# Altium footprint library PcbLib.PcbLib: 6 footprints
Each footprint in its own frame and in the unit in brackets; x right, y up, seen from the top. Pads: shape width x height; smd on the part's side, far side on the other; paste and mask are expansions set on the pad; w line width, h text height; cw(c..) or ccw(c..) is an arc to the next point about the centre after c.
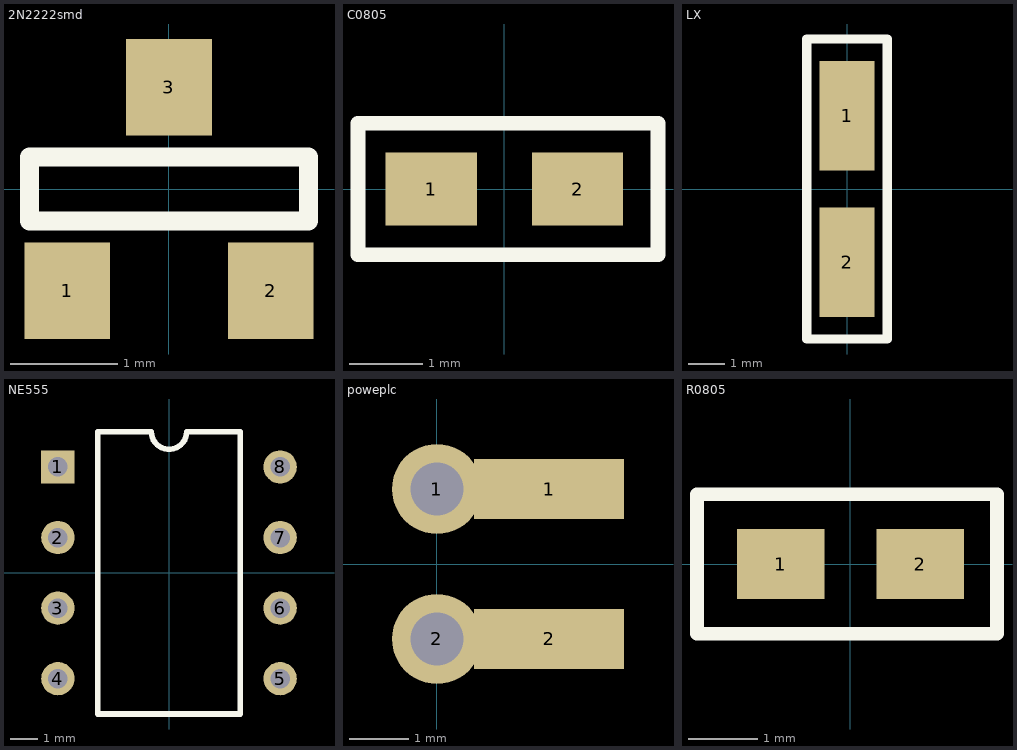
[diagram p0: the footprints below, top view; thin cyan lines are the x and y axes]

## 2N2222smd [mm]
pads (3):
  rect 0.8x0.9 smd: 1(-0.95,-0.95) 2(0.95,-0.95) 3(0,0.95)
Top Overlay:
  lines w0.178: -1.3,-0.3 -1.3,0.3 1.3,0.3 1.3,-0.3 -1.3,-0.3
3D body "SOT-23_ONS.step": height 1.12, standoff 0, extent -1.524,-1.321 1.524,1.321

## C0805 [mm]
pads (2):
  rect 1.25x1 smd: 1(-1,0) 2(1,0)
Top Overlay:
  lines w0.2: -2,-0.9 2.1,-0.9 2.1,0.9 -2,0.9 -2,-0.9
3D body "CAP_CL21_SAM.step": height 1.35, standoff 0, extent -1,-0.625 1,0.625

## LX [mm]
pads (2):
  rect 1.5x3 smd: 1(0,2) 2(0,-2)
Top Overlay:
  lines w0.254: -1.1,-4.1 1.1,-4.1 1.1,4.1 -1.1,4.1 -1.1,-4.1

## NE555 [mm]
pads (8):
  rect 1.2x1.2 hole 0.7: 1(-4,3.81)
  round 1.2 hole 0.7: 2(-4,1.27) 3(-4,-1.27) 4(-4,-3.81) 5(4,-3.81) 6(4,-1.27) 7(4,1.27) 8(4,3.81)
Top Overlay:
  lines w0.2: -2.565,-5.08 -2.565,5.08 -0.635,5.08 ccw(c0,5.08) 0.635,5.08 2.565,5.08 2.565,-5.08 -2.565,-5.08
3D body "dip8 v1.step": height 4.5, standoff -3, extent -4,-4.85 4,4.65

## poweplc [mil]
pads (4):
  round 60 hole 35.43: 1(0,50) 2(0,-50)
  rect 100x40 smd: 1(74.8,50) 2(74.8,-50)
3D body "800-80-002-20-001101.stp": height 100, standoff -125.98, extent -370.47,-103.94 13.59,96.06

## R0805 [mm]
pads (2):
  rect 1.25x1 smd: 1(-1,0) 2(1,0)
Top Overlay:
  lines w0.2: -2.2,-1 -2.2,1 2.1,1 2.1,-1 -2.2,-1
3D body "RES_2012_SAM.step": height 0.65, standoff 0, extent -1,-0.625 1,0.625